# Altium footprint library SteeringWheelParts.PcbLib: 1 footprints
Each footprint in its own frame and in the unit in brackets; x right, y up, seen from the top. Pads: shape width x height; smd on the part's side, far side on the other; paste and mask are expansions set on the pad; w line width, h text height; cw(c..) or ccw(c..) is an arc to the next point about the centre after c.
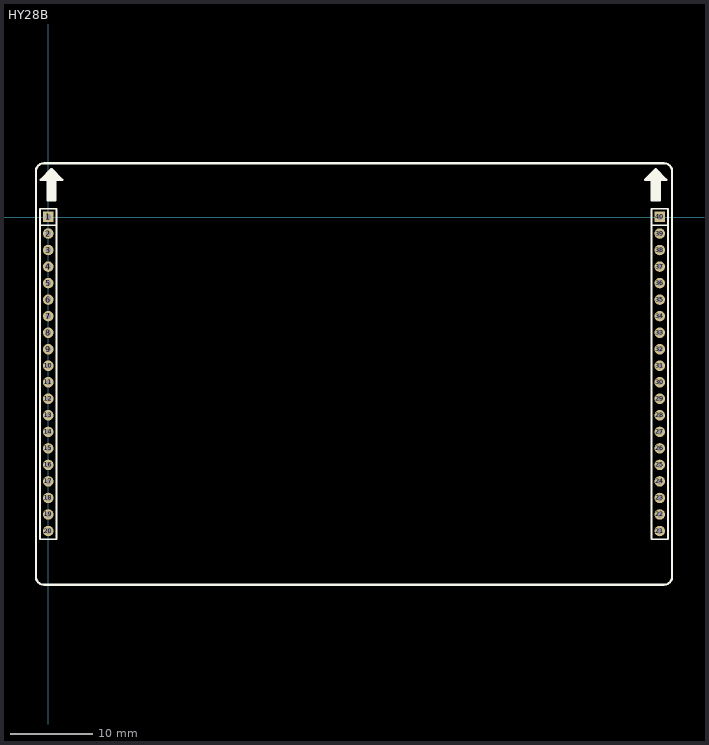
[diagram p0: the footprint, top view; thin cyan lines are the x and y axes]

## HY28B [mm] "2.8\" LCD"
pads (40):
  rect 1.27x1.27 hole 0.7: 1(0,0.025) 40(74,0.025)
  round 1.27 hole 0.7: 2(0,-1.975) 3(0,-3.975) 4(0,-5.975) 5(0,-7.975) 6(0,-9.975) 7(0,-11.975) 8(0,-13.975) 9(0,-15.975) 10(0,-17.975) 11(0,-19.975) 12(0,-21.975) 13(0,-23.975) 14(0,-25.975) 15(0,-27.975) 16(0,-29.975) 17(0,-31.975) 18(0,-33.975) 19(0,-35.975) 20(0,-37.975) 21(74,-37.975) 22(74,-35.975) 23(74,-33.975) 24(74,-31.975) 25(74,-29.975) 26(74,-27.975) 27(74,-25.975) 28(74,-23.975) 29(74,-21.975) 30(74,-19.975) 31(74,-17.975) 32(74,-15.975) 33(74,-13.975) 34(74,-11.975) 35(74,-9.975) 36(74,-7.975) 37(74,-5.975) 38(74,-3.975) 39(74,-1.975)
Top Overlay:
  lines w0.2: -1,-0.975 1,-0.975 ; 73,-0.975 75,-0.975 ; -1,-38.975 1,-38.975 1,1.025 -1,1.025 -1,-38.975 ; 73,-38.975 75,-38.975 75,1.025 73,1.025 73,-38.975
  lines w0.254: -0.708,4.718 -0.292,4.718 ; -0.457,4.968 1.23,4.968 ; -0.266,5.16 0.971,5.16 ; -0.183,5.243 0.983,5.243 ; 0.047,5.472 0.689,5.472 ; 0.1,2.125 0.1,4.525 ; 0.289,5.714 0.511,5.714 ; 0.3,2.225 0.3,4.718 ; 0.5,2.025 0.5,4.525 ; 0.7,2.025 0.7,4.718 ; 1.417,4.718 -0.292,4.718 ; 72.374,4.699 74.59,4.699 ; 72.603,4.929 74.318,4.929 ; 72.858,5.184 74.088,5.184 ; 73.113,5.439 73.887,5.439 ; 73.2,2.025 73.2,4.699 ; 73.337,5.662 73.377,5.662 73.6,5.439 ; 73.4,2.125 73.4,4.699 ; 73.6,2.025 73.6,4.699 ; 73.8,2.225 73.8,4.699 ; -0.292,4.718 -0.1,4.525 ; -0.1,4.525 0.9,4.525 ; -0.1,4.525 -0.1,2.025 0.9,2.025 0.9,4.525 ; -0.1,4.525 -0.9,4.525 0.4,5.825 1.7,4.525 0.9,4.525 ; -1.5,-43.475 ccw(c-0.5,-43.475) -0.5,-44.475 74.5,-44.475 ccw(c74.5,-43.475) 75.5,-43.475 75.5,5.525 ccw(c74.5,5.525) 74.5,6.525 -0.5,6.525 ccw(c-0.5,5.525) -1.5,5.525 -1.5,-43.475 ; 72.2,4.525 73,4.525 73,2.025 74,2.025 74,4.525 74.8,4.525 73.5,5.825 72.2,4.525